# EAGLE library part MODULE_RP2040_SHIELD (library WIO_RP2040_MODULE)
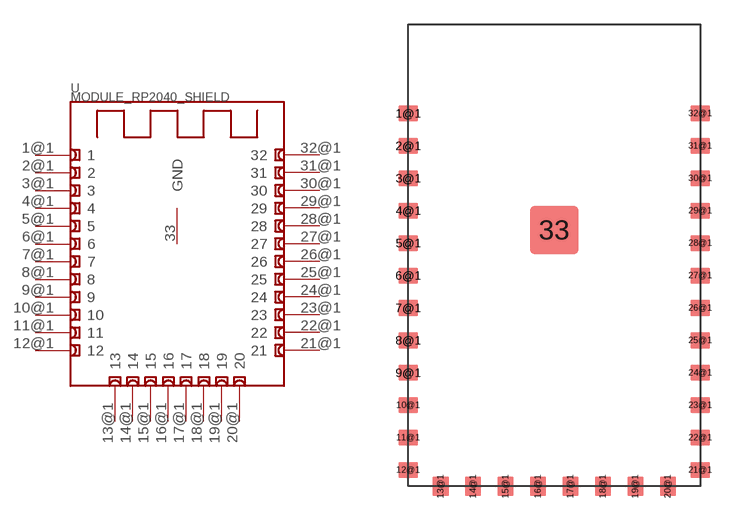
[diagram p0: symbol with the pads of MODULE_RP2040_SHIELD; footprint MODULE_RP2040_SHIELD]

Designator prefix -

## MODULE_RP2040_SHIELD  [MODULE_RP2040_SHIELD]
1@1  1
2@1  2
3@1  3
4@1  4
5@1  5
6@1  6
7@1  7
8@1  8
9@1  9
10@1  10
11@1  11
12@1  12
13@1  13
14@1  14
15@1  15
16@1  16
17@1  17
18@1  18
19@1  19
20@1  20
21@1  21
22@1  22
23@1  23
24@1  24
25@1  25
26@1  26
27@1  27
28@1  28
29@1  29
30@1  30
31@1  31
32@1  32
33  GND

## Footprint MODULE_RP2040_SHIELD (pad centres in mm)
smd 1.2 x 1: 1@1 -9,6; 2@1 -9,4; 3@1 -9,2; 4@1 -9,0; 5@1 -9,-2; 6@1 -9,-4; 7@1 -9,-6; 8@1 -9,-8; 9@1 -9,-10; 10@1 -9,-12; 11@1 -9,-14; 12@1 -9,-16; 21@1 9,-16; 22@1 9,-14; 23@1 9,-12; 24@1 9,-10; 25@1 9,-8; 26@1 9,-6; 27@1 9,-4; 28@1 9,-2; 29@1 9,0; 30@1 9,2; 31@1 9,4; 32@1 9,6
smd 1 x 1.2: 13@1 -7,-17; 14@1 -5,-17; 15@1 -3,-17; 16@1 -1,-17; 17@1 1,-17; 18@1 3,-17; 19@1 5,-17; 20@1 7,-17
smd 3 x 3: 33 0,-1.2